# Altium schematic symbol library BQ24298RTWT.SchLib: 1 symbol
Pins are listed as number, name and electrical type; pins without a type are passive.

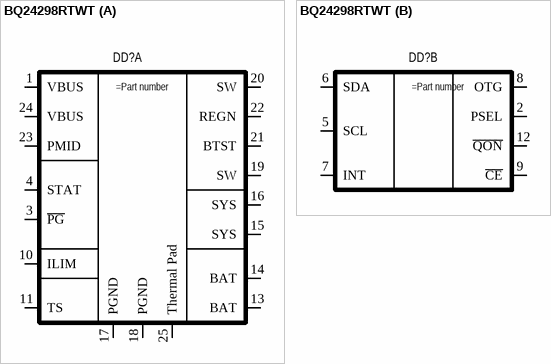
[diagram p0: symbol BQ24298RTWT]

## BQ24298RTWT
designator DD?
I2C Controlled 3A Single Cell USB Charger With Narrow VDC / Power Path Management and Adjustable Voltage USB OTG
part A pins: 1 VBUS, 3 ~{PG}, 4 STAT, 10 ILIM, 11 TS, 13 BAT, 14 BAT, 15 SYS, 16 SYS, 17 PGND, 18 PGND, 19 SW, 20 SW, 21 BTST, 22 REGN, 23 PMID, 24 VBUS, 25 Thermal Pad
part B pins: 2 PSEL, 5 SCL, 6 SDA, 7 INT, 8 OTG, 9 ~{CE}, 12 ~{QON}